# Altium schematic symbol library relay.SchLib: 10 symbols
Pins are listed as number, name and electrical type; pins without a type are passive.

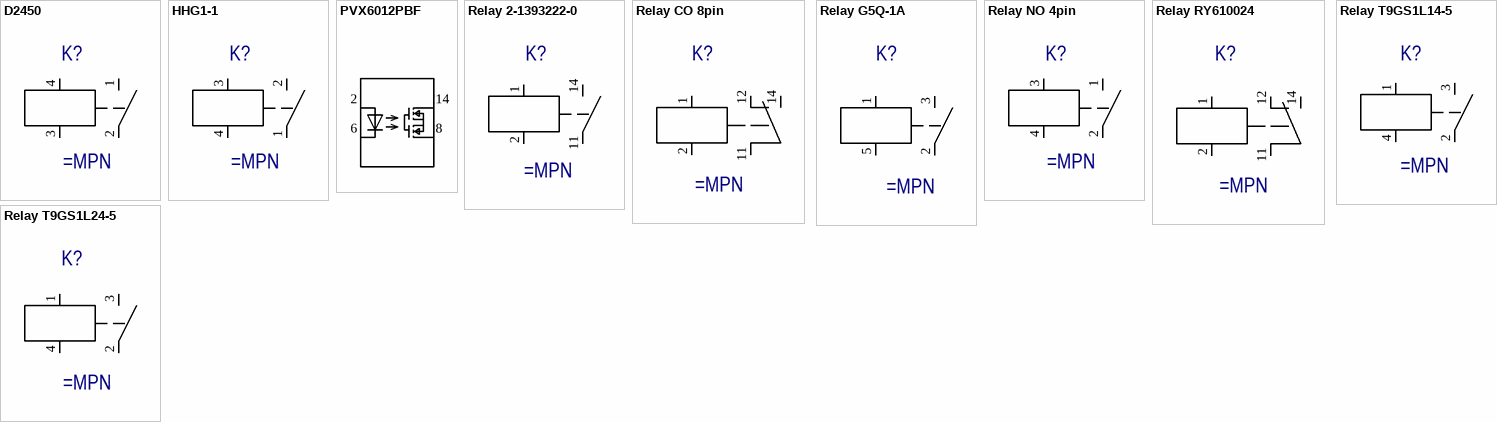
[diagram p0: symbols D2450 to Relay T9GS1L24-5]

## D2450
designator K?
pins: 1, 2, 3, 4

## HHG1-1
designator K?
pins: 1, 2, 3, 4

## PVX6012PBF
designator ?
pins: 2, 6, 8, 14

## Relay 2-1393222-0
designator K?
pins: 1, 2, 11, 14

## Relay CO 8pin
designator K?
pins: 1, 2, 11, 12, 14

## Relay G5Q-1A
designator K?
Miniature Power Relay with / 1-pole 10A Switching Capacity
pins: 1, 2, 3, 5

## Relay NO 4pin
designator K?
pins: 1, 2, 3, 4

## Relay RY610024
designator K?
pins: 1, 2, 11, 12, 14

## Relay T9GS1L14-5
designator K?
Relay 5VDC 30A/250VAC
pins: 1, 2, 3, 4

## Relay T9GS1L24-5
designator K?
Relay 5VDC 30A/250VAC
pins: 1, 2, 3, 4